# EAGLE library part M24256-DFCS6TP/K (library Memory)
IC EEPROM 256KBIT I2C 8WLCSP Manufacturer's datasheet <https://www.st.com/content/ccc/resource/technical/document/datasheet/b6/38/3e/3f/fe/a6/48/c2/CD00001891.pdf/files/CD00001891.pdf/jcr:content/translations/en.CD00001891.pdf>
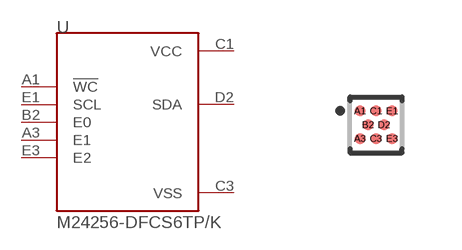
[diagram p9: symbol with the pads of WLCSP8; footprint WLCSP8]

Designator prefix U

## M24256-DFCS6TP/K (CREATED_BY: PCBLayout.com; DIGIKEY_PARTNO: 497-13611-2-ND; MANUFACTURER: STMicroelectronics; MPN: M24256-DFCS6TP/K; PACKAGE: WLCSP8)  [WLCSP8]
A1  !WC  in
A3  E1  in
B2  E0  in
C1  VCC  pwr
C3  VSS  pwr
D2  SDA
E1  SCL  in
E3  E2  in

## Footprint WLCSP8 (pad centres in mm)
smd 0.27 x 0.27: A1 -0.4,0.346; A3 -0.4,-0.346; B2 -0.2,0; C1 0,0.346; C3 0,-0.346; D2 0.2,0; E1 0.4,0.346; E3 0.4,-0.346